# EAGLE library part LCD-12864B (library Module)
128 x 64 Graphic LCD Created by: Wai Weng
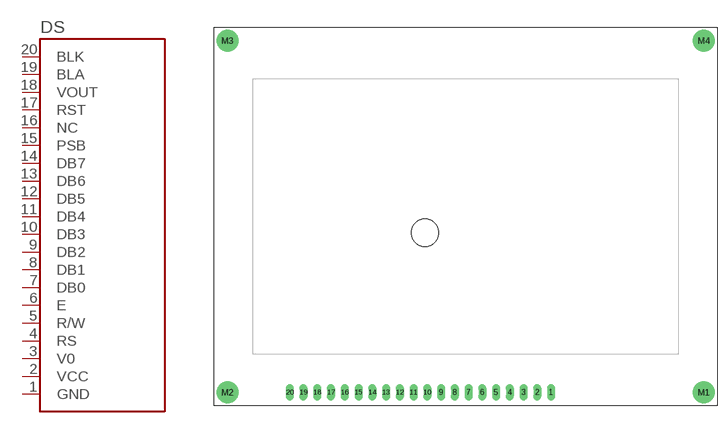
[diagram p15: symbol with the pads of LCD-12864B-9370; footprint LCD-12864B-9370]

Designator prefix DS

## LCD-12864B (DESC: Graphic LCD 128x64; MPN: 12864B)  [LCD-12864B-9370]
1  GND
2  VCC
3  V0
4  RS
5  R/W
6  E
7  DB0
8  DB1
9  DB2
10  DB3
11  DB4
12  DB5
13  DB6
14  DB7
15  PSB
16  NC
17  RST
18  VOUT
19  BLA
20  BLK

## Footprint LCD-12864B-9370 (pad centres in mm)
128 x 64 Graphic LCD Size: 93mm x 70mm Created by: Wai Weng
drill 1 long: 1 15.76,-32.5; 2 13.22,-32.5; 3 10.68,-32.5; 4 8.14,-32.5; 5 5.6,-32.5; 6 3.06,-32.5; 7 0.52,-32.5; 8 -2.02,-32.5; 9 -4.56,-32.5; 10 -7.1,-32.5; 11 -9.64,-32.5; 12 -12.18,-32.5; 13 -14.72,-32.5; 14 -17.26,-32.5; 15 -19.8,-32.5; 16 -22.34,-32.5; 17 -24.88,-32.5; 18 -27.42,-32.5; 19 -29.96,-32.5; 20 -32.5,-32.5
drill 3: M1 44,-32.5; M2 -44,-32.5; M3 -44,32.5; M4 44,32.5
hole 5 at -7.5,-3